# EAGLE library part M13X2 (library Connectors)
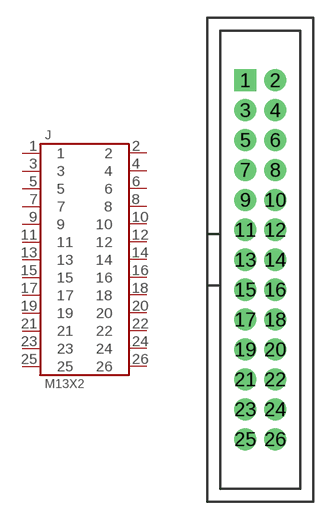
[diagram p29: symbol with the pads of M13X2_100MIL-SHROUDED; footprint M13X2_100MIL-SHROUDED]

Designator prefix J

## M13X2_100MIL-SHROUDED  [M13X2_100MIL-SHROUDED]
1  1
2  2
3  3
4  4
5  5
6  6
7  7
8  8
9  9
10  10
11  11
12  12
13  13
14  14
15  15
16  16
17  17
18  18
19  19
20  20
21  21
22  22
23  23
24  24
25  25
26  26

## Footprint M13X2_100MIL-SHROUDED (pad centres in mm)
drill 1.016 pad 1.88 square: 1 -1.27,15.24
drill 1.016 pad 1.88: 2 1.27,15.24; 3 -1.27,12.7; 4 1.27,12.7; 5 -1.27,10.16; 6 1.27,10.16; 7 -1.27,7.62; 8 1.27,7.62; 9 -1.27,5.08; 10 1.27,5.08; 11 -1.27,2.54; 12 1.27,2.54; 13 -1.27,0; 14 1.27,0; 15 -1.27,-2.54; 16 1.27,-2.54; 17 -1.27,-5.08; 18 1.27,-5.08; 19 -1.27,-7.62; 20 1.27,-7.62; 21 -1.27,-10.16; 22 1.27,-10.16; 23 -1.27,-12.7; 24 1.27,-12.7; 25 -1.27,-15.24; 26 1.27,-15.24